# Altium footprint library Driver_LED.PcbLib: 1 footprints
Each footprint in its own frame and in the unit in brackets; x right, y up, seen from the top. Pads: shape width x height; smd on the part's side, far side on the other; paste and mask are expansions set on the pad; w line width, h text height; cw(c..) or ccw(c..) is an arc to the next point about the centre after c.
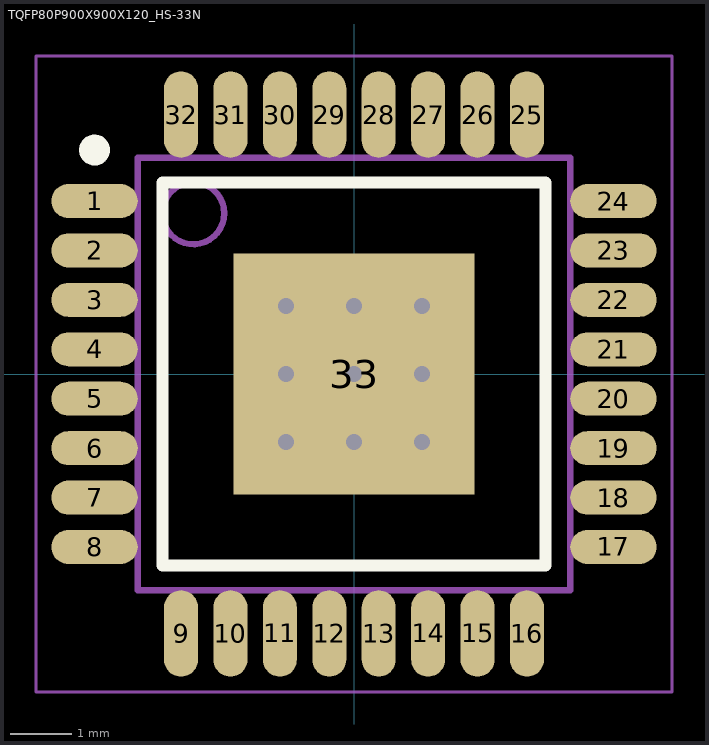
[diagram p0: the footprint, top view; thin cyan lines are the x and y axes]

## TQFP80P900X900X120_HS-33N [mm] "TQFP, 32-Leads, Body 7.00x7.00mm, Pitch 0.80mm, Thermal Pad 3.90x3.90mm, IPC Medium Density"
height 1.2
pads (33):
  oval 1.4x0.55 smd: 1(-4.2,2.8) 2(-4.2,2) 3(-4.2,1.2) 4(-4.2,0.4) 5(-4.2,-0.4) 6(-4.2,-1.2) 7(-4.2,-2) 8(-4.2,-2.8) 17(4.2,-2.8) 18(4.2,-2) 19(4.2,-1.2) 20(4.2,-0.4) 21(4.2,0.4) 22(4.2,1.2) 23(4.2,2) 24(4.2,2.8)
  oval 0.55x1.4 smd: 9(-2.8,-4.2) 10(-2,-4.2) 11(-1.2,-4.2) 12(-0.4,-4.2) 13(0.4,-4.2) 14(1.2,-4.2) 15(2,-4.2) 16(2.8,-4.2) 25(2.8,4.2) 26(2,4.2) 27(1.2,4.2) 28(0.4,4.2) 29(-0.4,4.2) 30(-1.2,4.2) 31(-2,4.2) 32(-2.8,4.2)
  rect 3.9x3.9 smd: 33(0,0)
via 1.1,-1.1 diameter 0.61 hole 0.254
via 0,-1.1 diameter 0.61 hole 0.254
via -1.1,-1.1 diameter 0.61 hole 0.254
via 1.1,0 diameter 0.61 hole 0.254
via 0,0 diameter 0.61 hole 0.254
via -1.1,0 diameter 0.61 hole 0.254
via 1.1,1.1 diameter 0.61 hole 0.254
via 0,1.1 diameter 0.61 hole 0.254
via -1.1,1.1 diameter 0.61 hole 0.254
Top Overlay:
  circle w0.25: c-4.2,3.625 r0.125
  lines w0.2: -3.1,-3.1 3.1,-3.1 3.1,3.1 -3.1,3.1 -3.1,-3.1
Mechanical 13:
  circle w0.1: c-2.6,2.6 r0.5
  lines w0.1: -3.5,-3.5 3.5,-3.5 3.5,3.5 -3.5,3.5 -3.5,-3.5
Mechanical 15:
  lines w0.05: -5.15,-5.15 5.15,-5.15 5.15,5.15 -5.15,5.15 -5.15,-5.15
  lines w0.1: -0.5,0 0.5,0 ; 0,-0.5 0,0.5
3D body "TQFP80P900X900X120_HS-33N.step": height 1.2, standoff 0, extent -4.5,-4.5 4.5,4.5